# EAGLE library part TE-CON-MTA150-RA-HEADER-1-640457-0 (library eagleparts)
Connector Header Through Hole, Right Angle 10 position 0.100" (2.54mm) A1930-ND TE Connectivity AMP 1-640457-0
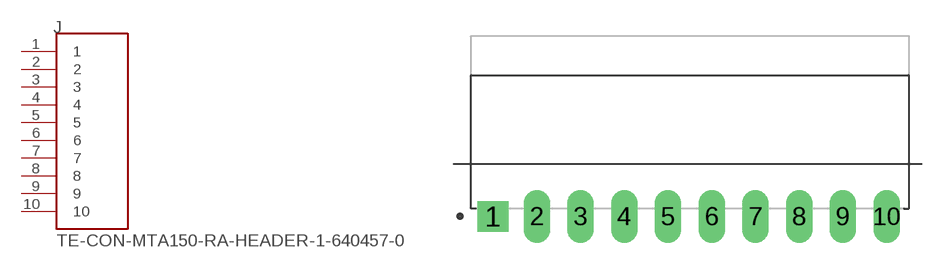
[diagram p10: symbol with the pads of TE_1-640457-0; footprint TE_1-640457-0]

Designator prefix J

## TE-CON-MTA150-RA-HEADER-1-640457-0 (MANUFACTURER: TE; PARTREV: R; STANDARD: Manufacturer Recommendations)  [TE_1-640457-0]
1  1  pas
2  2  pas
3  3  pas
4  4  pas
5  5  pas
6  6  pas
7  7  pas
8  8  pas
9  9  pas
10  10  pas

## Footprint TE_1-640457-0 (pad centres in mm)
drill 1.02 pad 1.778 square: 1 -11.43,0
drill 1.02 pad 1.37 long: 2 -8.89,0; 3 -6.35,0; 4 -3.81,0; 5 -1.27,0; 6 1.27,0; 7 3.81,0; 8 6.35,0; 9 8.89,0; 10 11.43,0